# Altium schematic symbol library GS61004B.SchLib: 1 symbol
Pins are listed as number, name and electrical type; pins without a type are passive.

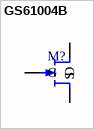
[diagram p0: symbol GS61004B]

## GS61004B
designator M?
100V, 38A, GaN E-mode N-Channel
pins: 1 D, 2 G, 3 S